# Altium schematic symbol library volume_knob.SchLib: 12 symbols
Pins are listed as number, name and electrical type; pins without a type are passive.

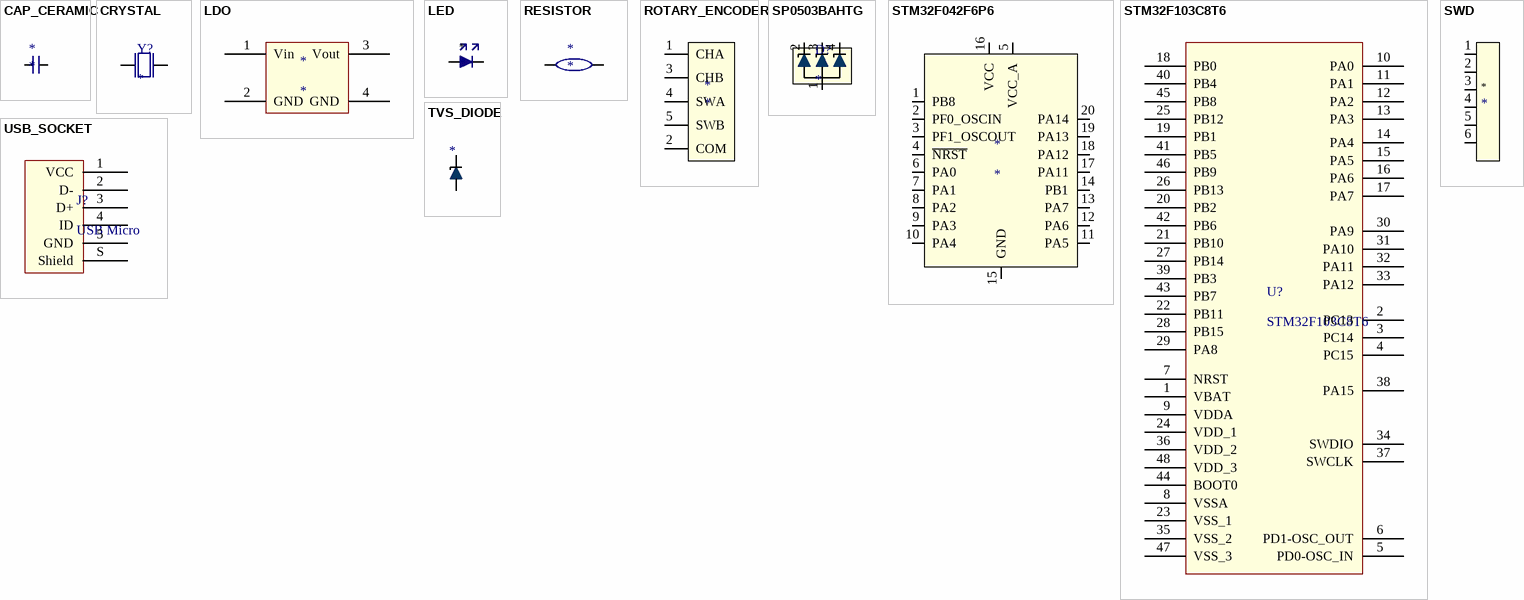
[diagram p0: symbols CAP_CERAMIC to USB_SOCKET]

## CAP_CERAMIC
designator *
MLCC; Value: *
footprint CAPC1608X07L (MLCC 0603)
footprint CAPC3216X07L (MLCC 1206)
footprint MLCC_0805 (MLCC 0805)
pins: 1 A, 2 B

## CRYSTAL
designator Y?
Crystal oscillator; Value: *
footprint CRYSTAL (SMT Crystal 4.70x11.40mm Pitch 8.80mm)
pins: 1, 2

## LDO
designator *
LDO
footprint SOT230P700X180-4N (SOT223/4 6.5x7mm 2.3mm pitch)
footprint SOT95P237X110-3L (SOT23x3 2.90x2.37mm Pitch 0.95mm); pin to pad 1>3 2>1 3>2 4>1
pins: 1 Vin, 2 GND, 3 Vout, 4 GND

## LED
designator *
LED; Value: *
footprint SMT_LED_0603 (SMT LED 0603)
footprint LED 5mm through hole (5MM through hole LED)
pins: 1 CATHODE "TP", 2 ANODE "TP"

## RESISTOR
designator *
Resistor; Value: *
footprint RESC1608X05L (0603 SMT Resistor)
pins: 1 A, 2 B

## ROTARY_ENCODER
designator *
Rotary Encoder
footprint PEC12R-4XXXF-SXXXX_1 (Rotary encoder)
pins: 1 CHA, 2 COM, 3 CHB, 4 SWA, 5 SWB

## SP0503BAHTG
designator D?
TVS Diode (Uni-directional); Manufacturer_Name: LITTELFUSE; Manufacturer_Part_Number: SP0503BAHTG; Allied_Number: 70184377; Datasheet Link: http://uk.rs-online.com/web/p/products/7931967P; Height: 1.22mm; RS Part Number: 7931967P; RS Price/Stock: http://uk.rs-online.com/web/p/products/7931967P
footprint SOT190P255X122-4L (SOT143, 4-Leads, Body 2.92x2.55mm, Pitch 1.90mm, IPC High Density)
pins: 1 A, 2 K1, 3 K2, 4 K3

## STM32F042F6P6
designator *
footprint TSOP65P630X120-20L (TSOPx20 6.45x4.35mm Pitch 0.65mm)
pins: 1 PB8 (power), 2 PF0_OSCIN (power), 3 PF1_OSCOUT (power), 4 ~{NRST} (power), 5 VCC_A (power), 6 PA0 (power), 7 PA1 (power), 8 PA2 (power), 9 PA3 (power), 10 PA4 (power), 11 PA5 (power), 12 PA6 (power), 13 PA7 (power), 14 PB1 (power), 15 GND (power), 16 VCC (power), 17 PA11 (power), 18 PA12 (power), 19 PA13 (power), 20 PA14 (power)

## STM32F103C8T6
designator U?
footprint CQFP50P900X900X160-48N (QFP48)
pins: 1 VBAT, 2 PC13, 3 PC14, 4 PC15, 5 PD0-OSC_IN, 6 PD1-OSC_OUT, 7 NRST, 8 VSSA, 9 VDDA, 10 PA0, 11 PA1, 12 PA2, 13 PA3, 14 PA4, 15 PA5, 16 PA6, 17 PA7, 18 PB0, 19 PB1, 20 PB2, 21 PB10, 22 PB11, 23 VSS_1, 24 VDD_1, 25 PB12, 26 PB13, 27 PB14, 28 PB15, 29 PA8, 30 PA9, 31 PA10, 32 PA11, 33 PA12, 34 SWDIO, 35 VSS_2, 36 VDD_2, 37 SWCLK, 38 PA15, 39 PB3, 40 PB4, 41 PB5, 42 PB6, 43 PB7, 44 BOOT0, 45 PB8, 46 PB9, 47 VSS_3, 48 VDD_3

## SWD
designator *  (no BOM)
SWD Debug Header
footprint CON5 (4 Pin 2.54 header)
pins: 1, 2, 3, 4, 5 (power), 6 (power)

## TVS_DIODE
designator *  (value not drawn)
footprint SODFL98X40-2L (SODFL, 0.6x1.0mm)
pins: 1 K, 2 A

## USB_SOCKET
designator J?, comment USB Micro
USB Receptacle; Supplier Part No. 1: C397452
footprint USB Micro B midplane (Molex 47642 Type B Micro USB Receptacle)
footprint USB MICRO B JLCPCB
pins: 1 VCC, 2 D-, 3 D+, 4 ID, 5 GND, S Shield